# Altium footprint library s2b-ph.PcbLib: 1 footprints
Each footprint in its own frame and in the unit in brackets; x right, y up, seen from the top. Pads: shape width x height; smd on the part's side, far side on the other; paste and mask are expansions set on the pad; w line width, h text height; cw(c..) or ccw(c..) is an arc to the next point about the centre after c.
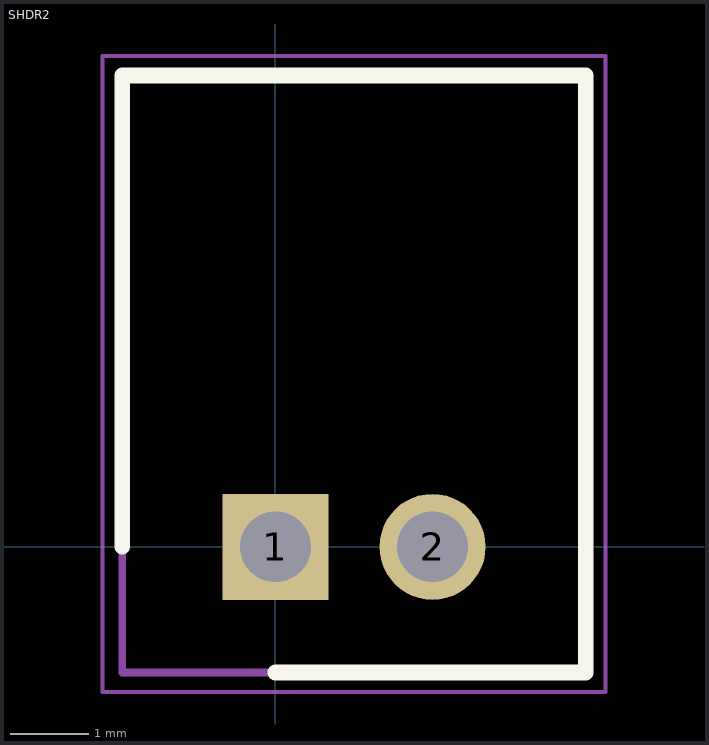
[diagram p0: the footprint, top view; thin cyan lines are the x and y axes]

## SHDR2 [mm]
pads (2):
  rect 1.35x1.35 hole 0.9: 1(0,0)
  round 1.35 hole 0.9: 2(2,0)
Top Overlay:
  lines w0.2: -1.95,0 -1.95,6 3.95,6 3.95,-1.6 0,-1.6
Mechanical 13:
  lines w0.1: -1.95,-1.6 3.95,-1.6 3.95,6 -1.95,6 -1.95,-1.6
Mechanical 15:
  lines w0.05: -2.2,-1.85 4.2,-1.85 4.2,6.25 -2.2,6.25 -2.2,-1.85